# Altium schematic symbol library MP1475DJ-LF-P.SchLib: 1 symbol
Pins are listed as number, name and electrical type; pins without a type are passive.

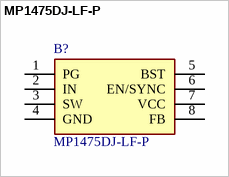
[diagram p0: symbol MP1475DJ-LF-P]

## MP1475DJ-LF-P
designator B?
Switching Voltage Regulators 3A, 16V, 500kHz Sync, Stp-Dwn Cnvrtr; Manufacturer_Name: Monolithic Power Systems (MPS); Geometry.Height: 1mm; Manufacturer_Part_Number: MP1475DJ-LF-P; Mouser Part Number: 946-MP1475DJLFP; Mouser Price/Stock: https://www.mouser.co.uk/ProductDetail/Monolithic-Power-Systems-MPS/MP1475DJ-LF-P?qs=Iq7RKQRjpgoaxnjiXuhBAA%3D%3D; Arrow Part Number: *; Arrow Price/Stock: *; Datasheet Link: https://www.monolithicpower.com/en/documentview/productdocument/index/version/2/document_type/Datasheet/lang/en/sku/MP1475/document_id/342
footprint SOT65P280X100-8N
pins: 1 PG, 2 IN, 3 SW, 4 GND, 5 BST, 6 EN/SYNC, 7 VCC, 8 FB